# Altium footprint library gps_modules.PcbLib: 2 footprints
Each footprint in its own frame and in the unit in brackets; x right, y up, seen from the top. Pads: shape width x height; smd on the part's side, far side on the other; paste and mask are expansions set on the pad; w line width, h text height; cw(c..) or ccw(c..) is an arc to the next point about the centre after c.
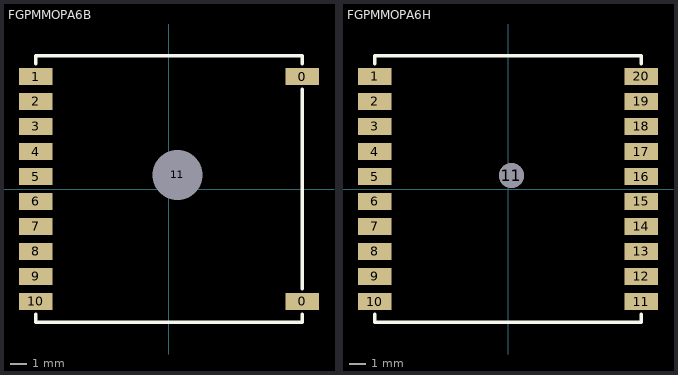
[diagram p0: the footprints below, top view; thin cyan lines are the x and y axes]

## FGPMMOPA6B [mm]
pads (13):
  rect 2x1 smd: 0(8,-6.75) 0(8,6.75) 1(-8,6.75) 2(-8,5.25) 3(-8,3.75) 4(-8,2.25) 5(-8,0.75) 6(-8,-0.75) 7(-8,-2.25) 8(-8,-3.75) 9(-8,-5.25) 10(-8,-6.75)
  round 1 hole 3: 11(0.5,0.85)
Top Overlay:
  lines w0.2: -8,-7.5 -8,-8 8,-8 8,-7.5 ; -8,7.5 -8,8 8,8 8,7.5 ; 8,-6 8,6
3D body "User Library-GPS.step": height 6.49, standoff -0.01, extent -8.01,-8 8.01,8

## FGPMMOPA6H [mm]
pads (21):
  rect 2x1 smd: 1(-8,6.75) 2(-8,5.25) 3(-8,3.75) 4(-8,2.25) 5(-8,0.75) 6(-8,-0.75) 7(-8,-2.25) 8(-8,-3.75) 9(-8,-5.25) 10(-8,-6.75) 11(8,-6.75) 12(8,-5.25) 13(8,-3.75) 14(8,-2.25) 15(8,-0.75) 16(8,0.75) 17(8,2.25) 18(8,3.75) 19(8,5.25) 20(8,6.75)
  round 1.5 hole 1.5: 11(0.2,0.8)
Top Overlay:
  lines w0.2: -8,-7.5 -8,-8 8,-8 8,-7.5 ; -8,7.5 -8,8 8,8 8,7.5
3D body "User Library-FGPMMOPA6H.step": height 5.1, standoff 0, extent -8,-8 8,8